# EAGLE library part RV-1805 (library SparkFun-Clocks)
Micro Crystal Switzerland - RV-1805-C3 - Extremely low power RTC module This RTC IC has been specially designed for ultimate low current consumption of typically 60 nA @ VDD 3.0V for 32.768 kHz XTAL mode. Additionally, there is an RC-Mode consuming only 17nA and an autocalibrated RC-mode consuming 22nA which permits to operate this RTC module several hours at Backup Supply Voltage using low-cost MLCC. The very small SMT ceramic-package combines the 32.768 kHz crystal unit with the CMOS-based oscillator and real-time-clock IC.
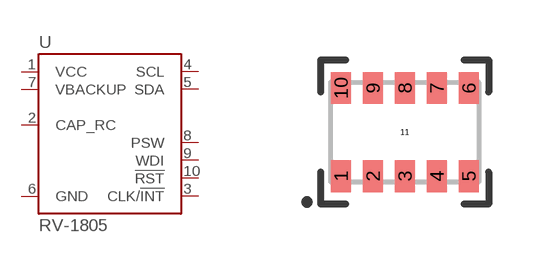
[diagram p0: symbol with the pads of RV-1805; footprint RV-1805]

Designator prefix U

## RV-1805 (PROD_ID: IC-13900)  [RV-1805]
1  VCC
2  CAP_RC
3  CLK/!INT
4  SCL
5  SDA
6  GND
7  VBACKUP
8  PSW
9  WDI
10  !RST

## Footprint RV-1805 (pad centres in mm)
SON 10-pin - Miniature SMT ceramic package Specifications: Pin count: [10] Pin pitch: [0.8mm] Area: [3.7mm x 2.5mm] Datasheet referenced for footprint <http://www.microcrystal.com/images/_Product-Documentation/02_Oscillator_&_RTC_Modules/02_Application_Manual/RV-1805-C3_App-Manual.pdf>
smd 0.5 x 0.8: 1 -1.6,-1.1; 2 -0.8,-1.1; 3 0,-1.1; 4 0.8,-1.1; 5 1.6,-1.1; 6 1.6,1.1; 7 0.8,1.1; 8 0,1.1; 9 -0.8,1.1; 10 -1.6,1.1
smd 0 x 0: 11 0,0